# EAGLE library part CDCE937-Q1 (library My_TI)
CDCE937-Q1 PROGRAMMABLE 3-PLL VCXO CLOCK SYNTHESIZER. • In-System Programmability and EEPROM. • Flexible Input Clocking Concept. • Selectable Output Frequency up to 230 MHz. • Separate Output Supply Pins • 1.8-V Device Power Supply Datasheet <http://www.ti.com/lit/ds/symlink/cdcel937-q1.pdf>
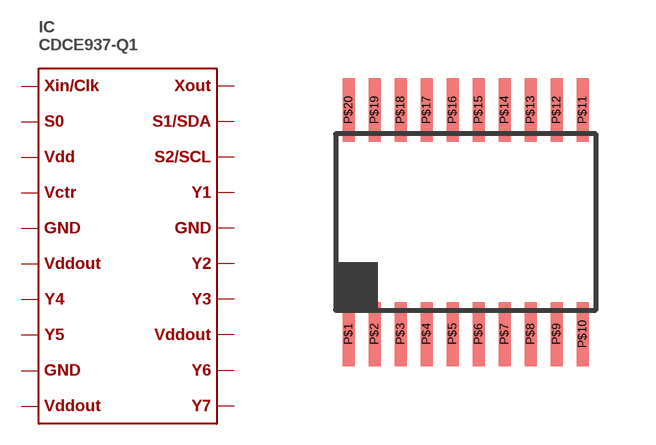
[diagram p65: symbol with the pads of TSSOP20-6.5X4.4; footprint TSSOP20-6.5X4.4]

Designator prefix IC

## CDCE937-Q1  [TSSOP20-6.5X4.4]
P$1  P$1
P$2  P$2
P$3  P$3
P$4  P$4
P$5  P$5
P$6  P$6
P$7  P$7
P$8  P$8
P$9  P$9
P$10  P$10
P$11  P$11
P$12  P$12
P$13  P$13
P$14  P$14
P$15  P$15
P$16  P$16
P$17  P$17
P$18  P$18
P$19  P$19
P$20  P$20

## Footprint TSSOP20-6.5X4.4 (pad centres in mm)
smd 0.3 x 1.6: P$1 -2.925,-2.8; P$2 -2.275,-2.8; P$3 -1.625,-2.8; P$4 -0.975,-2.8; P$5 -0.325,-2.8; P$6 0.325,-2.8; P$7 0.975,-2.8; P$8 1.625,-2.8; P$9 2.275,-2.8; P$10 2.925,-2.8; P$11 2.925,2.8; P$12 2.275,2.8; P$13 1.625,2.8; P$14 0.975,2.8; P$15 0.325,2.8; P$16 -0.325,2.8; P$17 -0.975,2.8; P$18 -1.625,2.8; P$19 -2.275,2.8; P$20 -2.925,2.8